# Altium footprint library PCB - CONNECTOR - OST - OST OSTTC050162.PcbLib: 1 footprints
Each footprint in its own frame and in the unit in brackets; x right, y up, seen from the top. Pads: shape width x height; smd on the part's side, far side on the other; paste and mask are expansions set on the pad; w line width, h text height; cw(c..) or ccw(c..) is an arc to the next point about the centre after c.
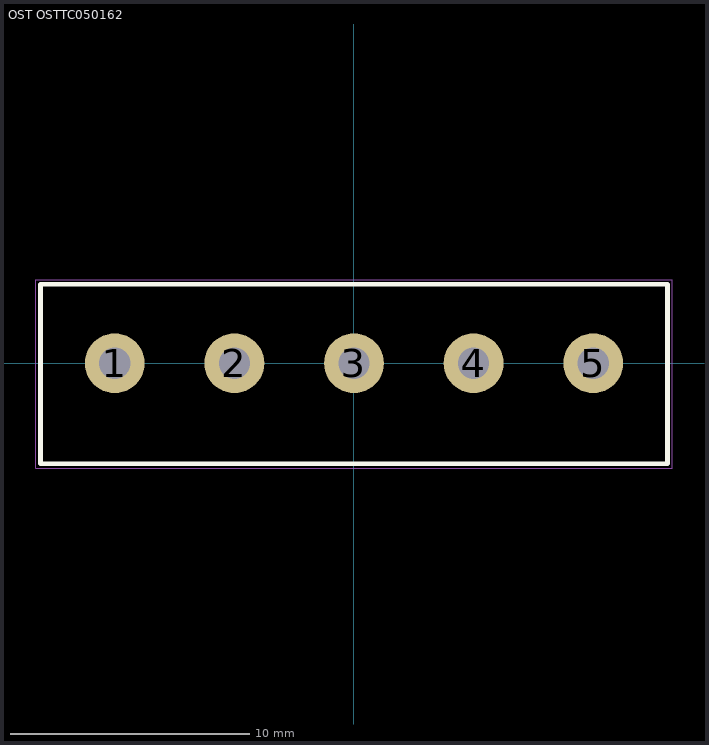
[diagram p0: the footprint, top view; thin cyan lines are the x and y axes]

## OST OSTTC050162 [mm] "Wire to Board Terminal Block Horizontal with Board, 5 Postions, Body 26.2x7.5mm, Pitch 5mm"
height 10.3
pads (5):
  round 2.5 hole 1.3: 1(-10,0) 2(-5,0) 3(0,0) 4(5,0) 5(10,0)
Top Overlay:
  lines w0.2: -13.1,-4.2 -13.1,3.3 13.1,3.3 13.1,-4.2 -13.1,-4.2
Mechanical 13:
  lines w0.1: -13.1,-4.2 13.1,-4.2 13.1,3.3 -13.1,3.3 -13.1,-4.2
Mechanical 15 (Mech15):
  lines w0.05: -13.3,-4.4 13.3,-4.4 13.3,3.5 -13.3,3.5 -13.3,-4.4
  lines w0.1: -0.4,0 0,0 ; 0,-0.4 0,0 ; 0,0.4 0,0 ; 0.4,0 0,0
3D body "OST - OSTTC050162.stp": height 10.3, standoff -3.8, extent -13.1,-4.2 13.1,3.3